# EAGLE library part SDC5510X (library SCD5510X)
FEATURES • Low Profile Package: 60% Smaller than Industry Standard 10-Digit Display • Ten 0.145" (3.68 mm) 5x5 Dot Matrix Characters in Red, Yellow, High Efficiency Red, Green, or High Efficiency Green • Optimum Display Surface Efficiency (display area to package ratio) • Low Power–30% Less Power Dissipation than 5x7 Format • High Speed Data Input Rate: 5 MHz • ROMless Serial Input, Dot Addressable Display—Ideal for User Defined Characters • Built-in Decoders, Multiplexers and LED Drivers • Readable from 6 Feet (1.8 meters) • Wide Viewing Angle, X Axis ±55°, Y Axis ±65° • Attributes: – 250 bit RAM for User Defined Characters – Eight Dimming Levels – Power Down Mode (<250 µW) – Hardware/Software Clear Function – Lamp Test • Internal or External Clock • End-Stackable Dual-in-line Plastic Package • 3.3 V Capability STANDARD RED SCD55100 YELLOW SCD55101 HIGH EFFICIENCY RED SCD55102 GREEN SCD55103 HIGH EFFICIENCY GREEN SCD55104 0.145" 10-Character 5x5 Dot Matrix Serial Input Dot Addressable Intelligent Display® Devices
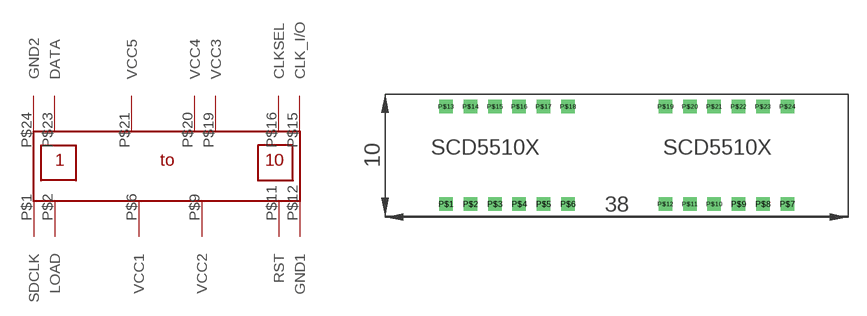
[diagram p0: symbol with the pads of SCD5510X; footprint SCD5510X]

Designator prefix -

## SDC5510X  [SCD5510X]
P$1  SDCLK
P$2  LOAD
P$6  VCC1
P$9  VCC2
P$11  RST
P$12  GND1
P$15  CLK_I/O
P$16  CLKSEL
P$19  VCC3
P$20  VCC4
P$21  VCC5
P$23  DATA
P$24  GND2

## Footprint SCD5510X (pad centres in mm)
FEATURES • Low Profile Package: 60% Smaller than Industry Standard 10-Digit Display • Ten 0.145" (3.68 mm) 5x5 Dot Matrix Characters in Red, Yellow, High Efficiency Red, Green, or High Efficiency Green • Optimum Display Surface Efficiency (display area to package ratio) • Low Power–30% Less Power Dissipation than 5x7 Format • High Speed Data Input Rate: 5 MHz • ROMless Serial Input, Dot Addressable Display—Ideal for User Defined Characters • Built-in Decoders, Multiplexers and LED Drivers • Readable from 6 Feet (1.8 meters) • Wide Viewing Angle, X Axis ±55°, Y Axis ±65° • Attributes: – 250 bit RAM for User Defined Characters – Eight Dimming Levels – Power Down Mode (<250 µW) – Hardware/Software Clear Function – Lamp Test • Internal or External Clock • End-Stackable Dual-in-line Plastic Package • 3.3 V Capability STANDARD RED SCD55100 YELLOW SCD55101 HIGH EFFICIENCY RED SCD55102 GREEN SCD55103 HIGH EFFICIENCY GREEN SCD55104 0.145" 10-Character 5x5 Dot Matrix Serial Input Dot Addressable Intelligent Display® Devices
drill 0.6 square: P$1 -14,-4; P$2 -12,-4; P$3 -10,-4; P$4 -8,-4; P$5 -6,-4; P$6 -4,-4; P$7 14,-4; P$8 12,-4; P$9 10,-4; P$10 8,-4; P$11 6,-4; P$12 4,-4; P$13 -14,4; P$14 -12,4; P$15 -10,4; P$16 -8,4; P$17 -6,4; P$18 -4,4; P$19 4,4; P$20 6,4; P$21 8,4; P$22 10,4; P$23 12,4; P$24 14,4